# Altium integrated library logo_PIF.IntLib: 1 symbol
Pins are listed as number, name and electrical type; pins without a type are passive.

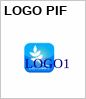
[diagram p0: symbol LOGO PIF]

## LOGO PIF
designator LOGO1  (value not drawn)
footprint PIF LOGO BOTTOM OVERLAY
footprint PIF LOGO TOP OVERLAY
footprint PIF LOGO TOP LAYER
footprint PIF LOGO BOTTOM LAYER